# Altium schematic symbol library MCP9804.SchLib: 1 symbol
Pins are listed as number, name and electrical type; pins without a type are passive.

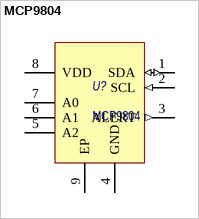
[diagram p0: symbol MCP9804]

## MCP9804
designator U?
±0.25°C Typical Accuracy Digital Temperature Sensor; Назначение: Датчик температуры I2C; Наименование: MCP9804-E/MC; Потребление, Вт: 0,001
footprint DFN-8_EP_2x3
pins: 1 SDA (io), 2 SCL (in), 3 ALERT (out), 4 GND, 5 A2, 6 A1, 7 A0, 8 VDD, 9 EP